# Altium schematic symbol library LCD.SchLib: 1 symbol
Pins are listed as number, name and electrical type; pins without a type are passive.

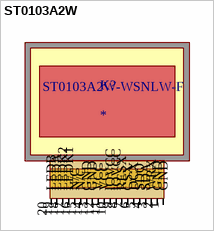
[diagram p0: symbol ST0103A2W]

## ST0103A2W
designator K?
footprint DPAK70P1823X500-20N (D3-PAK, 20-Pads, Body 16.41x17.53mm (max), IPC Medium Density)
pins: 1 GND (power), 2 GND (power), 3 WRX (in), 4 SDA (in), 5 SDO (in), 6 DCX (in), 7 CSX (in), 8 RESX (in), 9 lOVCC (power), 10 lOVCC (power), 11 VCC (power), 12 VCC (power), 13 GND (power), 14 GND (power), 15 N/C, 16 N/C, 17 LEDK1 (in), 18 LEDK2 (in), 19 LEDA (in), 20 LEDB (in)
text: ST0103A2W-WSNLW-F